# EAGLE library part MC34063A (library U-Boost)
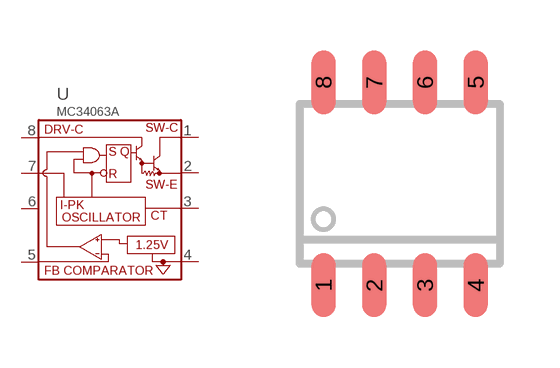
[diagram p0: symbol with the pads of SOIC8; footprint SOIC8]

Designator prefix U

## MC34063A  [SOIC8]
1  SW-C
2  SW-E
3  CT
4  GND  pwr
5  FB
6  VCC  sup
7  I-PK
8  DRV-C

## Footprint SOIC8 (pad centres in mm)
8POS Standard SMALLl OUTLINE Package (SO/SOIC) Narrow Body
smd 0.6 x 1.6: 1 -1.905,-2.54; 2 -0.635,-2.54; 3 0.635,-2.54; 4 1.905,-2.54; 5 1.905,2.54; 6 0.635,2.54; 7 -0.635,2.54; 8 -1.905,2.54